# Altium footprint library Package_LCC.PcbLib: 23 footprints (part 1 of 2)
Each footprint in its own frame and in the unit in brackets; x right, y up, seen from the top. Pads: shape width x height; smd on the part's side, far side on the other; paste and mask are expansions set on the pad; w line width, h text height; cw(c..) or ccw(c..) is an arc to the next point about the centre after c.
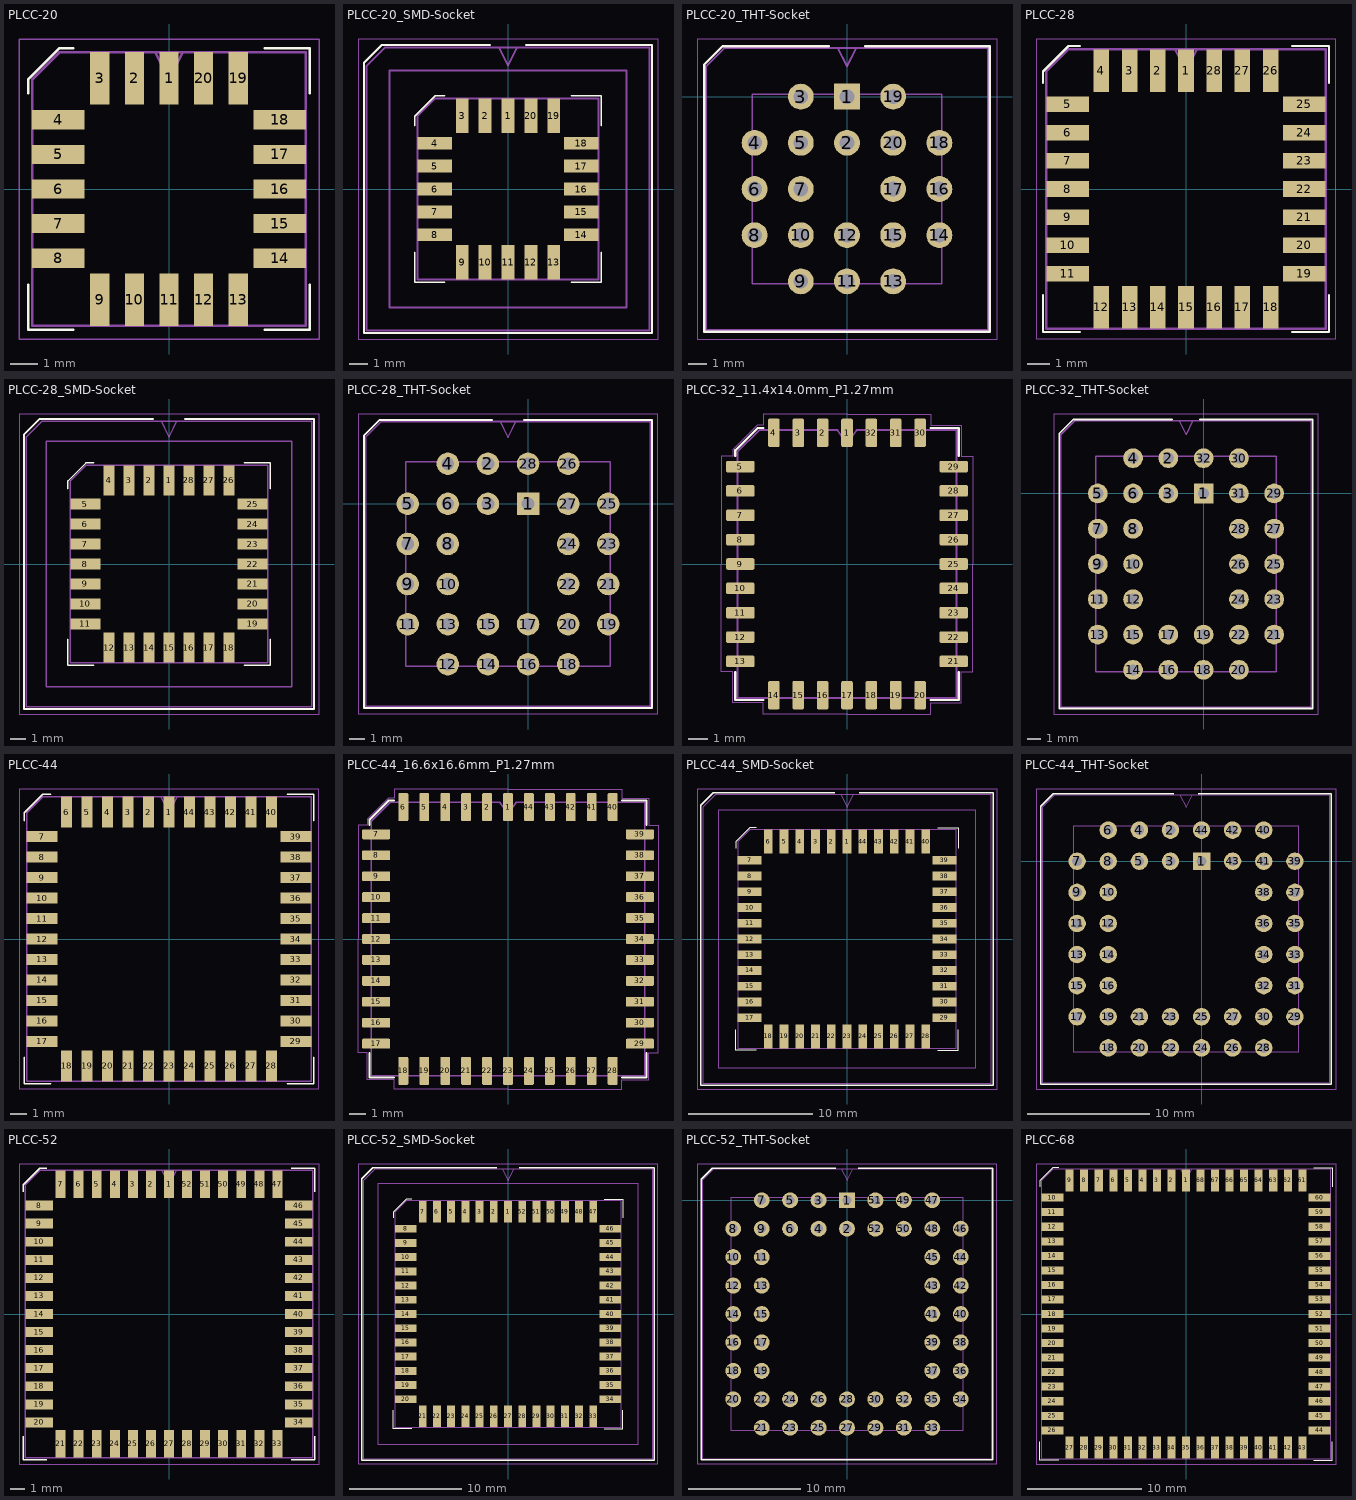
[diagram p0: the footprints below, top view; thin cyan lines are the x and y axes]

## PLCC-20 [mm]
pads (20):
  rect 0.7x1.925 smd: 1(0,4.052) 2(-1.27,4.052) 3(-2.54,4.052) 9(-2.54,-4.052) 10(-1.27,-4.052) 11(0,-4.052) 12(1.27,-4.052) 13(2.54,-4.052) 19(2.54,4.052) 20(1.27,4.052)
  rect 1.925x0.7 smd: 4(-4.052,2.54) 5(-4.052,1.27) 6(-4.052,0) 7(-4.052,-1.27) 8(-4.052,-2.54) 14(4.052,-2.54) 15(4.052,-1.27) 16(4.052,0) 17(4.052,1.27) 18(4.052,2.54)
F.SilkS:
  lines w0.1: -5.165,-3.515 -5.165,-5.165 -3.515,-5.165 ; -5.165,3.515 -5.165,4.015 -4.015,5.165 -3.515,5.165 ; 3.515,-5.165 5.165,-5.165 5.165,-3.515 ; 3.515,5.165 5.165,5.165 5.165,3.515
F.CrtYd:
  lines w0.05: -5.5,-5.5 5.5,-5.5 5.5,5.5 -5.5,5.5 -5.5,-5.5
F.Fab:
  lines w0.1: -0.5,5.015 0,4.015 0.5,5.015 ; -5.015,-5.015 5.015,-5.015 5.015,5.015 -4.015,5.015 -5.015,4.015 -5.015,-5.015
  text "'.Designator'" at -4.047,-0.84 h1

## PLCC-20_SMD-Socket [mm]
pads (20):
  rect 0.7x1.925 smd: 1(0,4.052) 2(-1.27,4.052) 3(-2.54,4.052) 9(-2.54,-4.052) 10(-1.27,-4.052) 11(0,-4.052) 12(1.27,-4.052) 13(2.54,-4.052) 19(2.54,4.052) 20(1.27,4.052)
  rect 1.925x0.7 smd: 4(-4.052,2.54) 5(-4.052,1.27) 6(-4.052,0) 7(-4.052,-1.27) 8(-4.052,-2.54) 14(4.052,-2.54) 15(4.052,-1.27) 16(4.052,0) 17(4.052,1.27) 18(4.052,2.54)
F.SilkS:
  lines w0.1: -5.165,-3.515 -5.165,-5.165 -3.515,-5.165 ; -5.165,3.515 -5.165,4.015 -4.015,5.165 -3.515,5.165 ; 3.515,-5.165 5.165,-5.165 5.165,-3.515 ; 3.515,5.165 5.165,5.165 5.165,3.515
  lines w0.12: -1,7.975 -6.975,7.975 -7.975,6.975 -7.975,-7.975 7.975,-7.975 7.975,7.975 1,7.975
F.CrtYd:
  lines w0.05: -8.3,-8.3 8.3,-8.3 8.3,8.3 -8.3,8.3 -8.3,-8.3
F.Fab:
  lines w0.1: -0.5,7.825 0,6.825 0.5,7.825 ; -7.825,-7.825 7.825,-7.825 7.825,7.825 -6.825,7.825 -7.825,6.825 -7.825,-7.825 ; -6.555,-6.555 6.555,-6.555 6.555,6.555 -6.555,6.555 -6.555,-6.555 ; -5.015,-5.015 5.015,-5.015 5.015,5.015 -4.015,5.015 -5.015,4.015 -5.015,-5.015
  text "'.Designator'" at -4.047,-0.84 h1

## PLCC-20_THT-Socket [mil]
pads (20):
  rect 56x56 hole 31.5: 1(0,0)
  round 56 hole 31.5: 2(0,-100) 3(-100,0) 4(-200,-100) 5(-100,-100) 6(-200,-200) 7(-100,-200) 8(-200,-300) 9(-100,-400) 10(-100,-300) 11(0,-400) 12(0,-300) 13(100,-400) 14(200,-300) 15(100,-300) 16(200,-200) 17(100,-200) 18(200,-100) 19(100,0) 20(100,-100)
F.SilkS:
  lines w4.72: -39.37,109.06 -269.69,109.06 -309.06,69.69 -309.06,-509.06 309.06,-509.06 309.06,109.06 39.37,109.06
F.CrtYd:
  lines w1.97: -324.8,-524.8 -324.8,124.8 324.8,124.8 324.8,-524.8 -324.8,-524.8
F.Fab:
  lines w3.94: -19.68,105.12 0,65.75 19.68,105.12 ; -305.12,-505.12 -305.12,65.75 -265.75,105.12 305.12,105.12 305.12,-505.12 -305.12,-505.12 ; -205.12,-405.12 205.12,-405.12 205.12,5.12 -205.12,5.12 -205.12,-405.12
  text "'.Designator'" at -159.32,-233.08 h39.37

## PLCC-28 [mm]
pads (28):
  rect 0.7x1.925 smd: 1(0,5.322) 2(-1.27,5.322) 3(-2.54,5.322) 4(-3.81,5.322) 12(-3.81,-5.322) 13(-2.54,-5.322) 14(-1.27,-5.322) 15(0,-5.322) 16(1.27,-5.322) 17(2.54,-5.322) 18(3.81,-5.322) 26(3.81,5.322) 27(2.54,5.322) 28(1.27,5.322)
  rect 1.925x0.7 smd: 5(-5.322,3.81) 6(-5.322,2.54) 7(-5.322,1.27) 8(-5.322,0) 9(-5.322,-1.27) 10(-5.322,-2.54) 11(-5.322,-3.81) 19(5.322,-3.81) 20(5.322,-2.54) 21(5.322,-1.27) 22(5.322,0) 23(5.322,1.27) 24(5.322,2.54) 25(5.322,3.81)
F.SilkS:
  lines w0.1: -6.435,-4.785 -6.435,-6.435 -4.785,-6.435 ; -6.435,4.785 -6.435,5.285 -5.285,6.435 -4.785,6.435 ; 4.785,-6.435 6.435,-6.435 6.435,-4.785 ; 4.785,6.435 6.435,6.435 6.435,4.785
F.CrtYd:
  lines w0.05: -6.75,-6.75 6.75,-6.75 6.75,6.75 -6.75,6.75 -6.75,-6.75
F.Fab:
  lines w0.1: -0.5,6.285 0,5.285 0.5,6.285 ; -6.285,-6.285 6.285,-6.285 6.285,6.285 -5.285,6.285 -6.285,5.285 -6.285,-6.285
  text "'.Designator'" at -4.047,-0.84 h1

## PLCC-28_SMD-Socket [mm]
pads (28):
  rect 0.7x1.925 smd: 1(0,5.322) 2(-1.27,5.322) 3(-2.54,5.322) 4(-3.81,5.322) 12(-3.81,-5.322) 13(-2.54,-5.322) 14(-1.27,-5.322) 15(0,-5.322) 16(1.27,-5.322) 17(2.54,-5.322) 18(3.81,-5.322) 26(3.81,5.322) 27(2.54,5.322) 28(1.27,5.322)
  rect 1.925x0.7 smd: 5(-5.322,3.81) 6(-5.322,2.54) 7(-5.322,1.27) 8(-5.322,0) 9(-5.322,-1.27) 10(-5.322,-2.54) 11(-5.322,-3.81) 19(5.322,-3.81) 20(5.322,-2.54) 21(5.322,-1.27) 22(5.322,0) 23(5.322,1.27) 24(5.322,2.54) 25(5.322,3.81)
F.SilkS:
  lines w0.1: -6.435,-4.785 -6.435,-6.435 -4.785,-6.435 ; -6.435,4.785 -6.435,5.285 -5.285,6.435 -4.785,6.435 ; 4.785,-6.435 6.435,-6.435 6.435,-4.785 ; 4.785,6.435 6.435,6.435 6.435,4.785
  lines w0.12: -1,9.24 -8.24,9.24 -9.24,8.24 -9.24,-9.24 9.24,-9.24 9.24,9.24 1,9.24
F.CrtYd:
  lines w0.05: -9.55,-9.55 -9.55,9.55 9.55,9.55 9.55,-9.55 -9.55,-9.55
F.Fab:
  lines w0.1: -0.5,9.09 0,8.09 0.5,9.09 ; -9.09,-9.09 -9.09,8.09 -8.09,9.09 9.09,9.09 9.09,-9.09 -9.09,-9.09 ; -7.82,-7.82 7.82,-7.82 7.82,7.82 -7.82,7.82 -7.82,-7.82 ; -6.285,-6.285 -6.285,5.285 -5.285,6.285 6.285,6.285 6.285,-6.285 -6.285,-6.285
  text "'.Designator'" at -4.047,-0.84 h1

## PLCC-28_THT-Socket [mil]
pads (28):
  rect 56x56 hole 31.5: 1(0,0)
  round 56 hole 31.5: 2(-100,100) 3(-100,0) 4(-200,100) 5(-300,0) 6(-200,0) 7(-300,-100) 8(-200,-100) 9(-300,-200) 10(-200,-200) 11(-300,-300) 12(-200,-400) 13(-200,-300) 14(-100,-400) 15(-100,-300) 16(0,-400) 17(0,-300) 18(100,-400) 19(200,-300) 20(100,-300) 21(200,-200) 22(100,-200) 23(200,-100) 24(100,-100) 25(200,0) 26(100,100) 27(100,0) 28(0,100)
F.SilkS:
  lines w4.72: -89.37,209.25 -369.88,209.25 -409.25,169.88 -409.25,-509.25 309.25,-509.25 309.25,209.25 -10.63,209.25
F.CrtYd:
  lines w1.97: -424.02,-524.02 324.02,-524.02 324.02,224.02 -424.02,224.02 -424.02,-524.02
F.Fab:
  lines w3.94: -69.69,205.31 -50,165.94 -30.32,205.31 ; -405.31,-505.31 305.31,-505.31 305.31,205.31 -365.94,205.31 -405.31,165.94 -405.31,-505.31 ; -305.31,-405.31 205.31,-405.31 205.31,105.31 -305.31,105.31 -305.31,-405.31
  text "'.Designator'" at -209.32,-183.08 h39.37

## PLCC-32_11.4x14.0mm_P1.27mm [mm]
pads (32):
  rrect25% 0.6x1.475 smd: 1(0,6.837) 2(-1.27,6.837) 3(-2.54,6.837) 4(-3.81,6.837) 14(-3.81,-6.837) 15(-2.54,-6.837) 16(-1.27,-6.837) 17(0,-6.837) 18(1.27,-6.837) 19(2.54,-6.837) 20(3.81,-6.837) 30(3.81,6.837) 31(2.54,6.837) 32(1.27,6.837)
  rrect25% 1.475x0.6 smd: 5(-5.563,5.08) 6(-5.563,3.81) 7(-5.563,2.54) 8(-5.563,1.27) 9(-5.563,0) 10(-5.563,-1.27) 11(-5.563,-2.54) 12(-5.563,-3.81) 13(-5.563,-5.08) 21(5.563,-5.08) 22(5.563,-3.81) 23(5.563,-2.54) 24(5.563,-1.27) 25(5.563,0) 26(5.563,1.27) 27(5.563,2.54) 28(5.563,3.81) 29(5.563,5.08)
F.SilkS:
  lines w0.12: -5.825,-5.64 -5.825,-7.095 -4.37,-7.095 ; -5.825,5.64 -5.825,5.923 -4.653,7.095 -4.37,7.095 ; 4.37,-7.095 5.825,-7.095 5.825,-5.64 ; 4.37,7.095 5.825,7.095 5.825,5.64
F.CrtYd:
  lines w0.05: -6.55,-5.63 -6.55,0 -6.55,5.63 -5.96,5.63 -5.96,5.95 -4.68,7.23 -4.36,7.23 -4.36,7.82 0,7.82 4.36,7.82 4.36,7.23 5.96,7.23 5.96,5.63 6.55,5.63 6.55,0 6.55,-5.63 5.96,-5.63 5.96,-7.23 4.36,-7.23 4.36,-7.82 0,-7.82 -4.36,-7.82 -4.36,-7.23 -5.96,-7.23 -5.96,-5.63 -6.55,-5.63
F.Fab:
  lines w0.1: -5.715,-6.985 5.715,-6.985 5.715,6.985 0.5,6.985 0,6.278 -0.5,6.985 -4.575,6.985 -5.715,5.845 -5.715,-6.985
  text "'.Designator'" at -4.047,-0.84 h1

## PLCC-32_THT-Socket [mil]
pads (32):
  rect 56x56 hole 31.5: 1(0,0)
  round 56 hole 31.5: 2(-100,100) 3(-100,0) 4(-200,100) 5(-300,0) 6(-200,0) 7(-300,-100) 8(-200,-100) 9(-300,-200) 10(-200,-200) 11(-300,-300) 12(-200,-300) 13(-300,-400) 14(-200,-500) 15(-200,-400) 16(-100,-500) 17(-100,-400) 18(0,-500) 19(0,-400) 20(100,-500) 21(200,-400) 22(100,-400) 23(200,-300) 24(100,-300) 25(200,-200) 26(100,-200) 27(200,-100) 28(100,-100) 29(200,0) 30(100,100) 31(100,0) 32(0,100)
F.SilkS:
  lines w4.72: -89.37,209.45 -369.88,209.45 -409.25,170.08 -409.25,-609.45 309.25,-609.45 309.25,209.45 -10.63,209.45
F.CrtYd:
  lines w1.97: -425.2,-625.2 -425.2,225.2 325.2,225.2 325.2,-625.2 -425.2,-625.2
F.Fab:
  lines w3.94: -69.69,205.51 -50,166.14 -30.32,205.51 ; -405.31,-605.51 305.31,-605.51 305.31,205.51 -365.94,205.51 -405.31,166.14 -405.31,-605.51 ; -305.31,-505.51 205.31,-505.51 205.31,105.51 -305.31,105.51 -305.31,-505.51
  text "'.Designator'" at -209.32,-233.08 h39.37

## PLCC-44 [mm]
pads (44):
  rect 0.7x1.925 smd: 1(0,7.862) 2(-1.27,7.862) 3(-2.54,7.862) 4(-3.81,7.862) 5(-5.08,7.862) 6(-6.35,7.862) 18(-6.35,-7.862) 19(-5.08,-7.862) 20(-3.81,-7.862) 21(-2.54,-7.862) 22(-1.27,-7.862) 23(0,-7.862) 24(1.27,-7.862) 25(2.54,-7.862) 26(3.81,-7.862) 27(5.08,-7.862) 28(6.35,-7.862) 40(6.35,7.862) 41(5.08,7.862) 42(3.81,7.862) 43(2.54,7.862) 44(1.27,7.862)
  rect 1.925x0.7 smd: 7(-7.862,6.35) 8(-7.862,5.08) 9(-7.862,3.81) 10(-7.862,2.54) 11(-7.862,1.27) 12(-7.862,0) 13(-7.862,-1.27) 14(-7.862,-2.54) 15(-7.862,-3.81) 16(-7.862,-5.08) 17(-7.862,-6.35) 29(7.862,-6.35) 30(7.862,-5.08) 31(7.862,-3.81) 32(7.862,-2.54) 33(7.862,-1.27) 34(7.862,0) 35(7.862,1.27) 36(7.862,2.54) 37(7.862,3.81) 38(7.862,5.08) 39(7.862,6.35)
F.SilkS:
  lines w0.1: -8.975,-7.325 -8.975,-8.975 -7.325,-8.975 ; -8.975,7.325 -8.975,7.825 -7.825,8.975 -7.325,8.975 ; 7.325,-8.975 8.975,-8.975 8.975,-7.325 ; 7.325,8.975 8.975,8.975 8.975,7.325
F.CrtYd:
  lines w0.05: -9.3,-9.3 9.3,-9.3 9.3,9.3 -9.3,9.3 -9.3,-9.3
F.Fab:
  lines w0.1: -0.5,8.825 0,7.825 0.5,8.825 ; -8.825,-8.825 8.825,-8.825 8.825,8.825 -7.825,8.825 -8.825,7.825 -8.825,-8.825
  text "'.Designator'" at -4.047,-0.84 h1

## PLCC-44_16.6x16.6mm_P1.27mm [mm]
pads (44):
  rrect25% 0.6x1.7 smd: 1(0,8) 2(-1.27,8) 3(-2.54,8) 4(-3.81,8) 5(-5.08,8) 6(-6.35,8) 18(-6.35,-8) 19(-5.08,-8) 20(-3.81,-8) 21(-2.54,-8) 22(-1.27,-8) 23(0,-8) 24(1.27,-8) 25(2.54,-8) 26(3.81,-8) 27(5.08,-8) 28(6.35,-8) 40(6.35,8) 41(5.08,8) 42(3.81,8) 43(2.54,8) 44(1.27,8)
  rrect25% 1.7x0.6 smd: 7(-8,6.35) 8(-8,5.08) 9(-8,3.81) 10(-8,2.54) 11(-8,1.27) 12(-8,0) 13(-8,-1.27) 14(-8,-2.54) 15(-8,-3.81) 16(-8,-5.08) 17(-8,-6.35) 29(8,-6.35) 30(8,-5.08) 31(8,-3.81) 32(8,-2.54) 33(8,-1.27) 34(8,0) 35(8,1.27) 36(8,2.54) 37(8,3.81) 38(8,5.08) 39(8,6.35)
F.SilkS:
  lines w0.12: -8.403,-6.91 -8.403,-8.403 -6.91,-8.403 ; -8.403,6.91 -8.403,7.228 -7.228,8.403 -6.91,8.403 ; 6.91,-8.403 8.403,-8.403 8.403,-6.91 ; 6.91,8.403 8.403,8.403 8.403,6.91
F.CrtYd:
  lines w0.05: -9.1,-6.9 -8.54,-6.9 -8.54,-8.54 -6.9,-8.54 -6.9,-9.1 0,-9.1 6.9,-9.1 6.9,-8.54 8.54,-8.54 8.54,-6.9 9.1,-6.9 9.1,0 9.1,6.9 8.54,6.9 8.54,8.54 6.9,8.54 6.9,9.1 0,9.1 -6.9,9.1 -6.9,8.54 -7.25,8.54 -8.54,7.25 -8.54,6.9 -9.1,6.9 -9.1,0 -9.1,-6.9
F.Fab:
  lines w0.1: -8.293,-8.293 -8.293,7.15 -7.15,8.293 -0.5,8.293 0,7.586 0.5,8.293 8.293,8.293 8.293,-8.293 -8.293,-8.293
  text "'.Designator'" at -4.047,-0.84 h1

## PLCC-44_SMD-Socket [mm]
pads (44):
  rect 0.7x1.925 smd: 1(0,7.862) 2(-1.27,7.862) 3(-2.54,7.862) 4(-3.81,7.862) 5(-5.08,7.862) 6(-6.35,7.862) 18(-6.35,-7.862) 19(-5.08,-7.862) 20(-3.81,-7.862) 21(-2.54,-7.862) 22(-1.27,-7.862) 23(0,-7.862) 24(1.27,-7.862) 25(2.54,-7.862) 26(3.81,-7.862) 27(5.08,-7.862) 28(6.35,-7.862) 40(6.35,7.862) 41(5.08,7.862) 42(3.81,7.862) 43(2.54,7.862) 44(1.27,7.862)
  rect 1.925x0.7 smd: 7(-7.862,6.35) 8(-7.862,5.08) 9(-7.862,3.81) 10(-7.862,2.54) 11(-7.862,1.27) 12(-7.862,0) 13(-7.862,-1.27) 14(-7.862,-2.54) 15(-7.862,-3.81) 16(-7.862,-5.08) 17(-7.862,-6.35) 29(7.862,-6.35) 30(7.862,-5.08) 31(7.862,-3.81) 32(7.862,-2.54) 33(7.862,-1.27) 34(7.862,0) 35(7.862,1.27) 36(7.862,2.54) 37(7.862,3.81) 38(7.862,5.08) 39(7.862,6.35)
F.SilkS:
  lines w0.1: -8.975,-7.325 -8.975,-8.975 -7.325,-8.975 ; -8.975,7.325 -8.975,7.825 -7.825,8.975 -7.325,8.975 ; 7.325,-8.975 8.975,-8.975 8.975,-7.325 ; 7.325,8.975 8.975,8.975 8.975,7.325
  lines w0.12: -1,11.79 -10.79,11.79 -11.79,10.79 -11.79,-11.79 11.79,-11.79 11.79,11.79 1,11.79
F.CrtYd:
  lines w0.05: -12.1,-12.1 -12.1,12.1 12.1,12.1 12.1,-12.1 -12.1,-12.1
F.Fab:
  lines w0.1: -0.5,11.64 0,10.64 0.5,11.64 ; -11.64,-11.64 11.64,-11.64 11.64,11.64 -10.64,11.64 -11.64,10.64 -11.64,-11.64 ; -10.37,-10.37 10.37,-10.37 10.37,10.37 -10.37,10.37 -10.37,-10.37 ; -8.825,-8.825 8.825,-8.825 8.825,8.825 -7.825,8.825 -8.825,7.825 -8.825,-8.825
  text "'.Designator'" at -4.047,-0.84 h1

## PLCC-44_THT-Socket [mil]
pads (44):
  rect 56x56 hole 31.5: 1(0,0)
  round 56 hole 31.5: 2(-100,100) 3(-100,0) 4(-200,100) 5(-200,0) 6(-300,100) 7(-400,0) 8(-300,0) 9(-400,-100) 10(-300,-100) 11(-400,-200) 12(-300,-200) 13(-400,-300) 14(-300,-300) 15(-400,-400) 16(-300,-400) 17(-400,-500) 18(-300,-600) 19(-300,-500) 20(-200,-600) 21(-200,-500) 22(-100,-600) 23(-100,-500) 24(0,-600) 25(0,-500) 26(100,-600) 27(100,-500) 28(200,-600) 29(300,-500) 30(200,-500) 31(300,-400) 32(200,-400) 33(300,-300) 34(200,-300) 35(300,-200) 36(200,-200) 37(300,-100) 38(200,-100) 39(300,0) 40(200,100) 41(200,0) 42(100,100) 43(100,0) 44(0,100)
F.SilkS:
  lines w4.72: -89.37,216.54 -477.17,216.54 -516.54,177.17 -516.54,-716.54 416.54,-716.54 416.54,216.54 -10.63,216.54
F.CrtYd:
  lines w1.97: -532.28,-732.28 -532.28,232.28 432.28,232.28 432.28,-732.28 -532.28,-732.28
F.Fab:
  lines w3.94: -69.69,212.6 -50,173.23 -30.32,212.6 ; -512.6,-712.6 -512.6,173.23 -473.23,212.6 412.6,212.6 412.6,-712.6 -512.6,-712.6 ; -412.6,-612.6 312.6,-612.6 312.6,112.6 -412.6,112.6 -412.6,-612.6
  text "'.Designator'" at -209.32,-283.08 h39.37

## PLCC-52 [mm]
pads (52):
  rect 0.7x1.925 smd: 1(0,9.132) 2(-1.27,9.132) 3(-2.54,9.132) 4(-3.81,9.132) 5(-5.08,9.132) 6(-6.35,9.132) 7(-7.62,9.132) 21(-7.62,-9.132) 22(-6.35,-9.132) 23(-5.08,-9.132) 24(-3.81,-9.132) 25(-2.54,-9.132) 26(-1.27,-9.132) 27(0,-9.132) 28(1.27,-9.132) 29(2.54,-9.132) 30(3.81,-9.132) 31(5.08,-9.132) 32(6.35,-9.132) 33(7.62,-9.132) 47(7.62,9.132) 48(6.35,9.132) 49(5.08,9.132) 50(3.81,9.132) 51(2.54,9.132) 52(1.27,9.132)
  rect 1.925x0.7 smd: 8(-9.132,7.62) 9(-9.132,6.35) 10(-9.132,5.08) 11(-9.132,3.81) 12(-9.132,2.54) 13(-9.132,1.27) 14(-9.132,0) 15(-9.132,-1.27) 16(-9.132,-2.54) 17(-9.132,-3.81) 18(-9.132,-5.08) 19(-9.132,-6.35) 20(-9.132,-7.62) 34(9.132,-7.62) 35(9.132,-6.35) 36(9.132,-5.08) 37(9.132,-3.81) 38(9.132,-2.54) 39(9.132,-1.27) 40(9.132,0) 41(9.132,1.27) 42(9.132,2.54) 43(9.132,3.81) 44(9.132,5.08) 45(9.132,6.35) 46(9.132,7.62)
F.SilkS:
  lines w0.1: -10.245,-8.595 -10.245,-10.245 -8.595,-10.245 ; -10.245,8.595 -10.245,9.095 -9.095,10.245 -8.595,10.245 ; 8.595,-10.245 10.245,-10.245 10.245,-8.595 ; 8.595,10.245 10.245,10.245 10.245,8.595
F.CrtYd:
  lines w0.05: -10.55,-10.55 -10.55,10.55 10.55,10.55 10.55,-10.55 -10.55,-10.55
F.Fab:
  lines w0.1: -0.5,10.095 0,9.095 0.5,10.095 ; -10.095,-10.095 -10.095,9.095 -9.095,10.095 10.095,10.095 10.095,-10.095 -10.095,-10.095
  text "'.Designator'" at -4.047,-0.84 h1

## PLCC-52_SMD-Socket [mm]
pads (52):
  rect 0.7x1.925 smd: 1(0,9.132) 2(-1.27,9.132) 3(-2.54,9.132) 4(-3.81,9.132) 5(-5.08,9.132) 6(-6.35,9.132) 7(-7.62,9.132) 21(-7.62,-9.132) 22(-6.35,-9.132) 23(-5.08,-9.132) 24(-3.81,-9.132) 25(-2.54,-9.132) 26(-1.27,-9.132) 27(0,-9.132) 28(1.27,-9.132) 29(2.54,-9.132) 30(3.81,-9.132) 31(5.08,-9.132) 32(6.35,-9.132) 33(7.62,-9.132) 47(7.62,9.132) 48(6.35,9.132) 49(5.08,9.132) 50(3.81,9.132) 51(2.54,9.132) 52(1.27,9.132)
  rect 1.925x0.7 smd: 8(-9.132,7.62) 9(-9.132,6.35) 10(-9.132,5.08) 11(-9.132,3.81) 12(-9.132,2.54) 13(-9.132,1.27) 14(-9.132,0) 15(-9.132,-1.27) 16(-9.132,-2.54) 17(-9.132,-3.81) 18(-9.132,-5.08) 19(-9.132,-6.35) 20(-9.132,-7.62) 34(9.132,-7.62) 35(9.132,-6.35) 36(9.132,-5.08) 37(9.132,-3.81) 38(9.132,-2.54) 39(9.132,-1.27) 40(9.132,0) 41(9.132,1.27) 42(9.132,2.54) 43(9.132,3.81) 44(9.132,5.08) 45(9.132,6.35) 46(9.132,7.62)
F.SilkS:
  lines w0.1: -10.245,-8.595 -10.245,-10.245 -8.595,-10.245 ; -10.245,8.595 -10.245,9.095 -9.095,10.245 -8.595,10.245 ; 8.595,-10.245 10.245,-10.245 10.245,-8.595 ; 8.595,10.245 10.245,10.245 10.245,8.595
  lines w0.12: -1,13.07 -12.07,13.07 -13.07,12.07 -13.07,-13.07 13.07,-13.07 13.07,13.07 1,13.07
F.CrtYd:
  lines w0.05: -13.4,-13.4 13.4,-13.4 13.4,13.4 -13.4,13.4 -13.4,-13.4
F.Fab:
  lines w0.1: -0.5,12.92 0,11.92 0.5,12.92 ; -12.92,-12.92 12.92,-12.92 12.92,12.92 -11.92,12.92 -12.92,11.92 -12.92,-12.92 ; -11.65,-11.65 -11.65,11.65 11.65,11.65 11.65,-11.65 -11.65,-11.65 ; -10.095,-10.095 10.095,-10.095 10.095,10.095 -9.095,10.095 -10.095,9.095 -10.095,-10.095
  text "'.Designator'" at -4.047,-0.84 h1

## PLCC-52_THT-Socket [mil]
pads (52):
  rect 56x56 hole 31.5: 1(0,0)
  round 56 hole 31.5: 2(0,-100) 3(-100,0) 4(-100,-100) 5(-200,0) 6(-200,-100) 7(-300,0) 8(-400,-100) 9(-300,-100) 10(-400,-200) 11(-300,-200) 12(-400,-300) 13(-300,-300) 14(-400,-400) 15(-300,-400) 16(-400,-500) 17(-300,-500) 18(-400,-600) 19(-300,-600) 20(-400,-700) 21(-300,-800) 22(-300,-700) 23(-200,-800) 24(-200,-700) 25(-100,-800) 26(-100,-700) 27(0,-800) 28(0,-700) 29(100,-800) 30(100,-700) 31(200,-800) 32(200,-700) 33(300,-800) 34(400,-700) 35(300,-700) 36(400,-600) 37(300,-600) 38(400,-500) 39(300,-500) 40(400,-400) 41(300,-400) 42(400,-300) 43(300,-300) 44(400,-200) 45(300,-200) 46(400,-100) 47(300,0) 48(300,-100) 49(200,0) 50(200,-100) 51(100,0) 52(100,-100)
F.SilkS:
  lines w4.72: -39.37,113.39 -474.02,113.39 -513.39,74.02 -513.39,-913.39 513.39,-913.39 513.39,113.39 39.37,113.39
F.CrtYd:
  lines w1.97: -527.56,-927.56 -527.56,127.56 527.56,127.56 527.56,-927.56 -527.56,-927.56
F.Fab:
  lines w3.94: -19.68,109.45 0,70.08 19.68,109.45 ; -509.45,-909.45 509.45,-909.45 509.45,109.45 -470.08,109.45 -509.45,70.08 -509.45,-909.45 ; -409.45,-809.45 409.45,-809.45 409.45,9.45 -409.45,9.45 -409.45,-809.45
  text "'.Designator'" at -159.32,-433.08 h39.37

## PLCC-68 [mm]
pads (68):
  rect 0.7x1.925 smd: 1(0,11.672) 2(-1.27,11.672) 3(-2.54,11.672) 4(-3.81,11.672) 5(-5.08,11.672) 6(-6.35,11.672) 7(-7.62,11.672) 8(-8.89,11.672) 9(-10.16,11.672) 27(-10.16,-11.672) 28(-8.89,-11.672) 29(-7.62,-11.672) 30(-6.35,-11.672) 31(-5.08,-11.672) 32(-3.81,-11.672) 33(-2.54,-11.672) 34(-1.27,-11.672) 35(0,-11.672) 36(1.27,-11.672) 37(2.54,-11.672) 38(3.81,-11.672) 39(5.08,-11.672) 40(6.35,-11.672) 41(7.62,-11.672) 42(8.89,-11.672) 43(10.16,-11.672) 61(10.16,11.672) 62(8.89,11.672) 63(7.62,11.672) 64(6.35,11.672) 65(5.08,11.672) 66(3.81,11.672) 67(2.54,11.672) 68(1.27,11.672)
  rect 1.925x0.7 smd: 10(-11.672,10.16) 11(-11.672,8.89) 12(-11.672,7.62) 13(-11.672,6.35) 14(-11.672,5.08) 15(-11.672,3.81) 16(-11.672,2.54) 17(-11.672,1.27) 18(-11.672,0) 19(-11.672,-1.27) 20(-11.672,-2.54) 21(-11.672,-3.81) 22(-11.672,-5.08) 23(-11.672,-6.35) 24(-11.672,-7.62) 25(-11.672,-8.89) 26(-11.672,-10.16) 44(11.672,-10.16) 45(11.672,-8.89) 46(11.672,-7.62) 47(11.672,-6.35) 48(11.672,-5.08) 49(11.672,-3.81) 50(11.672,-2.54) 51(11.672,-1.27) 52(11.672,0) 53(11.672,1.27) 54(11.672,2.54) 55(11.672,3.81) 56(11.672,5.08) 57(11.672,6.35) 58(11.672,7.62) 59(11.672,8.89) 60(11.672,10.16)
F.SilkS:
  lines w0.1: -12.785,-11.135 -12.785,-12.785 -11.135,-12.785 ; -12.785,11.135 -12.785,11.635 -11.635,12.785 -11.135,12.785 ; 11.135,-12.785 12.785,-12.785 12.785,-11.135 ; 11.135,12.785 12.785,12.785 12.785,11.135
F.CrtYd:
  lines w0.05: -13.1,-13.1 -13.1,13.1 13.1,13.1 13.1,-13.1 -13.1,-13.1
F.Fab:
  lines w0.1: -0.5,12.635 0,11.635 0.5,12.635 ; -12.635,-12.635 -12.635,11.635 -11.635,12.635 12.635,12.635 12.635,-12.635 -12.635,-12.635
  text "'.Designator'" at -4.047,-0.84 h1